# Altium schematic symbol library Jump.SchLib: 1 symbol
Pins are listed as number, name and electrical type; pins without a type are passive.

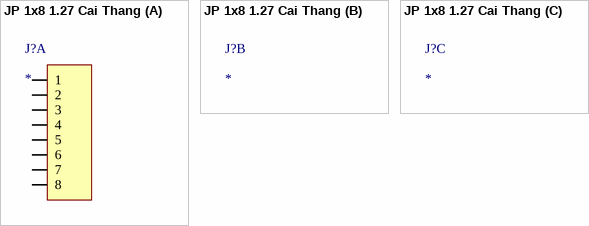
[diagram p0: symbol JP 1x8 1.27 Cai Thang]

## JP 1x8 1.27 Cai Thang
designator J?
footprint JP 1x8 1.27 Cai Thang
part A pins: 1, 2, 3, 4, 5, 6, 7, 8